# Altium schematic symbol library Header 2X10.Schlib: 1 symbol
Pins are listed as number, name and electrical type; pins without a type are passive.

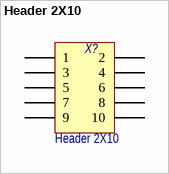
[diagram p0: symbol Header 2X10]

## Header 2X10
designator X?
Header, 10-Pin, Dual row; Потребление, Вт: 0,0; Назначение: Header, 10-Pin, Dual row; Наименование: Header 2X10
footprint PBD2-10s
footprint PLD2-10
footprint DS1013-10S (Footprint not found)
footprint S10B-PHDSS (JST 10 pin dual row right angle connector)
footprint DS1013-10R
footprint IDC2-10R (DS1014-10R, BH2-10R)
footprint PBD-2x10
footprint PLD2-10R
footprint PLD2-10-EDGE
pins: 1, 2, 3, 4, 5, 6, 7, 8, 9, 10